# Altium schematic symbol library con-hirose-df13.SCHLIB: 58 symbols
Pins are listed as number, name and electrical type; pins without a type are passive.

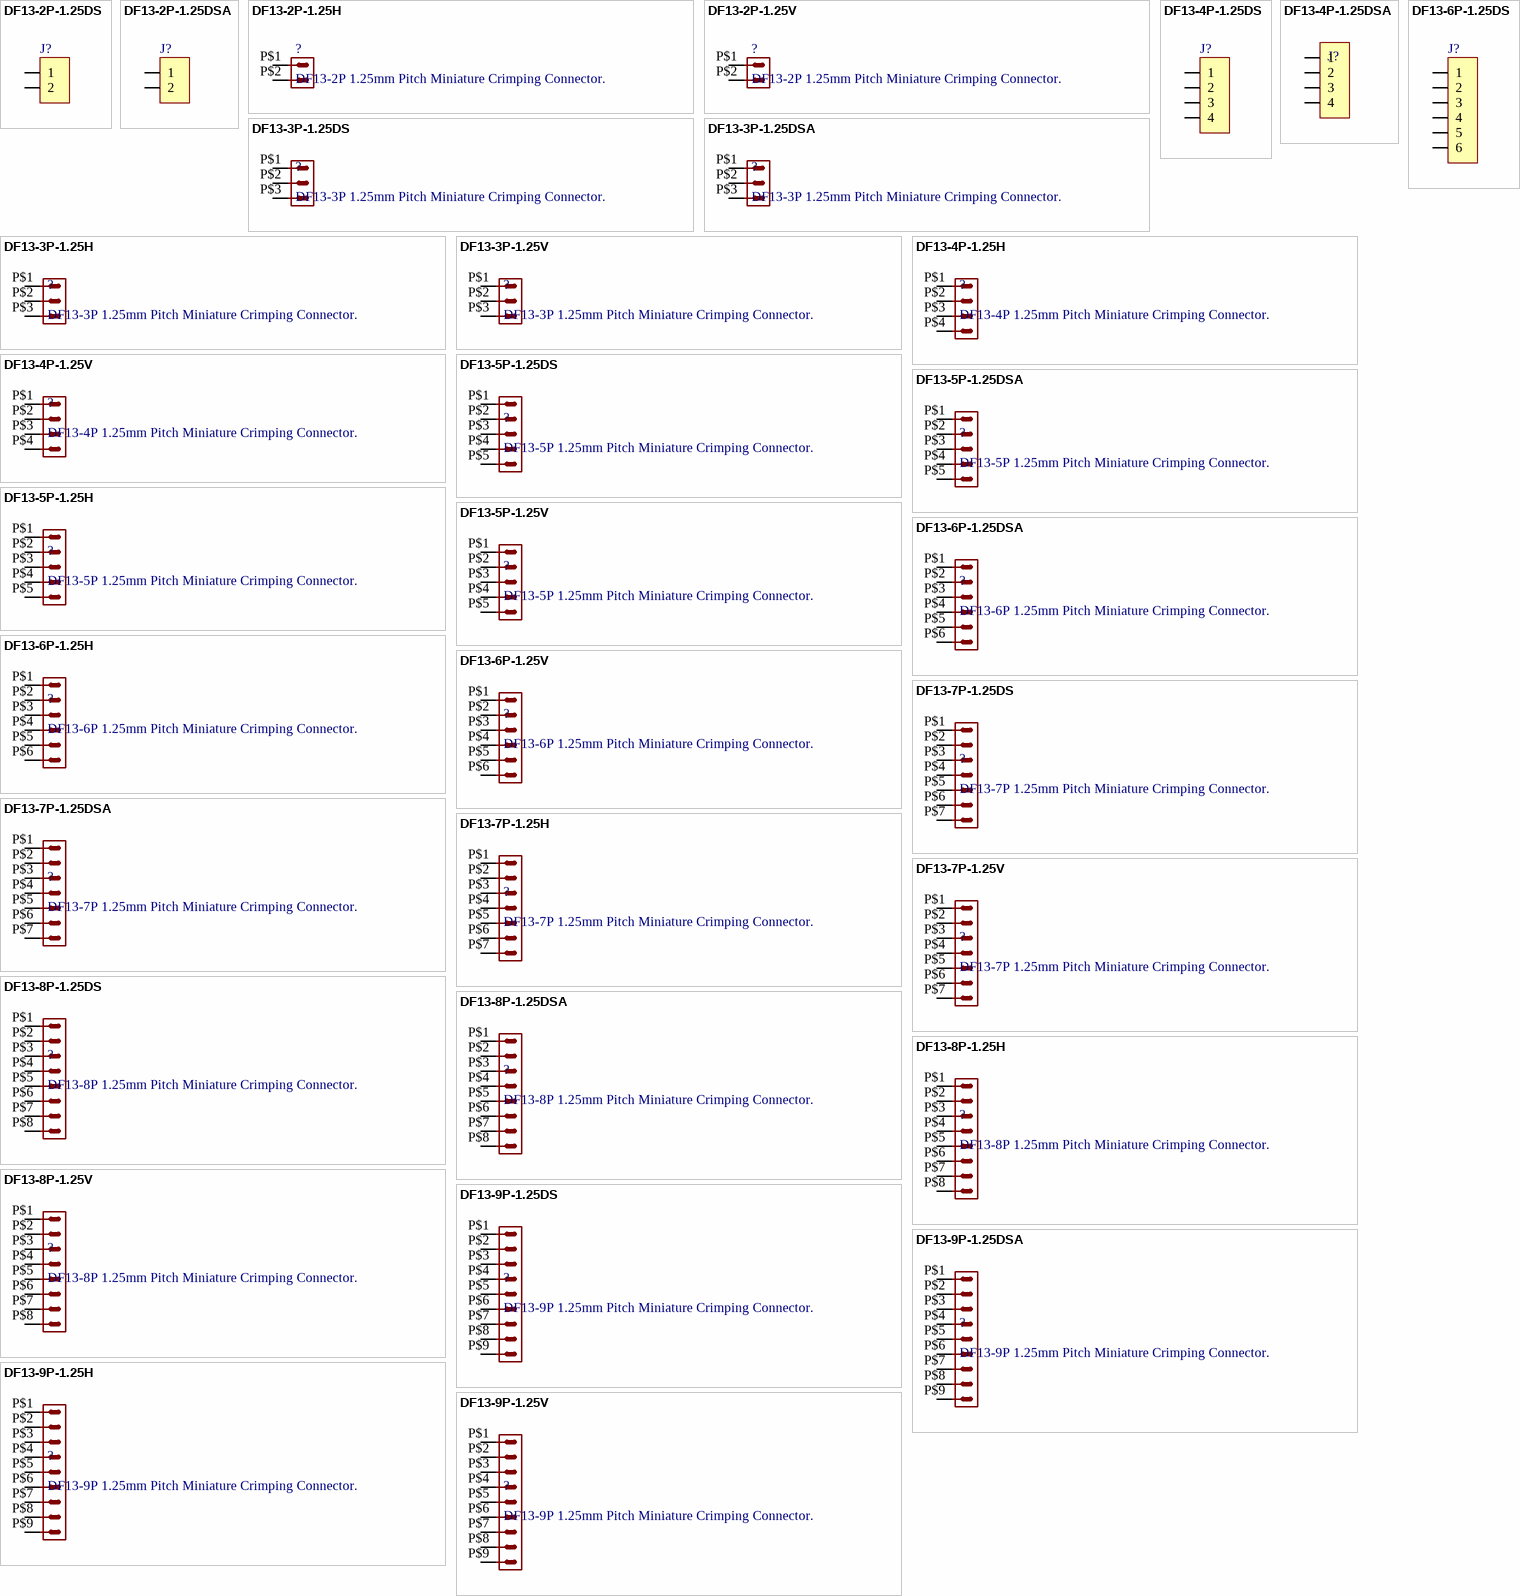
[diagram p0: symbols DF13-2P-1.25DS to DF13-9P-1.25V]

## DF13-2P-1.25DS
designator J?, comment DF13-2P / 1.25mm Pitch Miniature Crimping Connector.  (value not drawn)
footprint DF13-2P-1.25DS
pins: 1, 2

## DF13-2P-1.25DSA
designator J?, comment DF13-2P / 1.25mm Pitch Miniature Crimping Connector.  (value not drawn)
footprint DF13-2P-1.25DSA
pins: 1, 2

## DF13-2P-1.25H
designator ?, comment DF13-2P / 1.25mm Pitch Miniature Crimping Connector.
footprint DF13A-2P-1.25H
pins: P$1 1, P$2 2

## DF13-2P-1.25V
designator ?, comment DF13-2P / 1.25mm Pitch Miniature Crimping Connector.
footprint DF13C-2P-1.25V
pins: P$1 1, P$2 2

## DF13-3P-1.25DS
designator ?, comment DF13-3P / 1.25mm Pitch Miniature Crimping Connector.
footprint DF13-3P-1.25DS
pins: P$1 1, P$2 2, P$3 3

## DF13-3P-1.25DSA
designator ?, comment DF13-3P / 1.25mm Pitch Miniature Crimping Connector.
footprint DF13-3P-1.25DSA
pins: P$1 1, P$2 2, P$3 3

## DF13-3P-1.25H
designator ?, comment DF13-3P / 1.25mm Pitch Miniature Crimping Connector.
footprint DF13A-3P-1.25H
pins: P$1 1, P$2 2, P$3 3

## DF13-3P-1.25V
designator ?, comment DF13-3P / 1.25mm Pitch Miniature Crimping Connector.
footprint DF13C-3P-1.25V
pins: P$1 1, P$2 2, P$3 3

## DF13-4P-1.25DS
designator J?, comment DF13-4P / 1.25mm Pitch Miniature Crimping Connector.  (value not drawn)
footprint DF13-4P-1.25DS
pins: 1, 2, 3, 4

## DF13-4P-1.25DSA
designator J?, comment DF13-4P / 1.25mm Pitch Miniature Crimping Connector.  (value not drawn)
footprint DF13-4P-1.25DSA
pins: 1, 2, 3, 4

## DF13-4P-1.25H
designator ?, comment DF13-4P / 1.25mm Pitch Miniature Crimping Connector.
footprint DF13A-4P-1.25H
pins: P$1 1, P$2 2, P$3 3, P$4 4

## DF13-4P-1.25V
designator ?, comment DF13-4P / 1.25mm Pitch Miniature Crimping Connector.
footprint DF13C-4P-1.25V
pins: P$1 1, P$2 2, P$3 3, P$4 4

## DF13-5P-1.25DS
designator ?, comment DF13-5P / 1.25mm Pitch Miniature Crimping Connector.
footprint DF13-5P-1.25DS
pins: P$1 1, P$2 2, P$3 3, P$4 4, P$5 5

## DF13-5P-1.25DSA
designator ?, comment DF13-5P / 1.25mm Pitch Miniature Crimping Connector.
footprint DF13-5P-1.25DSA
pins: P$1 1, P$2 2, P$3 3, P$4 4, P$5 5

## DF13-5P-1.25H
designator ?, comment DF13-5P / 1.25mm Pitch Miniature Crimping Connector.
footprint DF13A-5P-1.25H
pins: P$1 1, P$2 2, P$3 3, P$4 4, P$5 5

## DF13-5P-1.25V
designator ?, comment DF13-5P / 1.25mm Pitch Miniature Crimping Connector.
footprint DF13C-5P-1.25V
pins: P$1 1, P$2 2, P$3 3, P$4 4, P$5 5

## DF13-6P-1.25DS
designator J?, comment DF13-6P / 1.25mm Pitch Miniature Crimping Connector.  (value not drawn)
footprint DF13-6P-1.25DS
pins: 1, 2, 3, 4, 5, 6

## DF13-6P-1.25DSA
designator ?, comment DF13-6P / 1.25mm Pitch Miniature Crimping Connector.
footprint DF13-6P-1.25DSA
pins: P$1 1, P$2 2, P$3 3, P$4 4, P$5 5, P$6 6

## DF13-6P-1.25H
designator ?, comment DF13-6P / 1.25mm Pitch Miniature Crimping Connector.
footprint DF13A-6P-1.25H
pins: P$1 1, P$2 2, P$3 3, P$4 4, P$5 5, P$6 6

## DF13-6P-1.25V
designator ?, comment DF13-6P / 1.25mm Pitch Miniature Crimping Connector.
footprint DF13C-6P-1.25V
pins: P$1 1, P$2 2, P$3 3, P$4 4, P$5 5, P$6 6

## DF13-7P-1.25DS
designator ?, comment DF13-7P / 1.25mm Pitch Miniature Crimping Connector.
footprint DF13-7P-1.25DS
pins: P$1 1, P$2 2, P$3 3, P$4 4, P$5 5, P$6 6, P$7 7

## DF13-7P-1.25DSA
designator ?, comment DF13-7P / 1.25mm Pitch Miniature Crimping Connector.
footprint DF13-7P-1.25DSA
pins: P$1 1, P$2 2, P$3 3, P$4 4, P$5 5, P$6 6, P$7 7

## DF13-7P-1.25H
designator ?, comment DF13-7P / 1.25mm Pitch Miniature Crimping Connector.
footprint DF13A-7P-1.25H
pins: P$1 1, P$2 2, P$3 3, P$4 4, P$5 5, P$6 6, P$7 7

## DF13-7P-1.25V
designator ?, comment DF13-7P / 1.25mm Pitch Miniature Crimping Connector.
footprint DF13C-7P-1.25V
pins: P$1 1, P$2 2, P$3 3, P$4 4, P$5 5, P$6 6, P$7 7

## DF13-8P-1.25DS
designator ?, comment DF13-8P / 1.25mm Pitch Miniature Crimping Connector.
footprint DF13-8P-1.25DS
pins: P$1 1, P$2 2, P$3 3, P$4 4, P$5 5, P$6 6, P$7 7, P$8 8

## DF13-8P-1.25DSA
designator ?, comment DF13-8P / 1.25mm Pitch Miniature Crimping Connector.
footprint DF13-8P-1.25DSA
pins: P$1 1, P$2 2, P$3 3, P$4 4, P$5 5, P$6 6, P$7 7, P$8 8

## DF13-8P-1.25H
designator ?, comment DF13-8P / 1.25mm Pitch Miniature Crimping Connector.
footprint DF13A-8P-1.25H
pins: P$1 1, P$2 2, P$3 3, P$4 4, P$5 5, P$6 6, P$7 7, P$8 8

## DF13-8P-1.25V
designator ?, comment DF13-8P / 1.25mm Pitch Miniature Crimping Connector.
footprint DF13C-8P-1.25V
pins: P$1 1, P$2 2, P$3 3, P$4 4, P$5 5, P$6 6, P$7 7, P$8 8

## DF13-9P-1.25DS
designator ?, comment DF13-9P / 1.25mm Pitch Miniature Crimping Connector.
footprint DF13-9P-1.25DS
pins: P$1 1, P$2 2, P$3 3, P$4 4, P$5 5, P$6 6, P$7 7, P$8 8, P$9 9

## DF13-9P-1.25DSA
designator ?, comment DF13-9P / 1.25mm Pitch Miniature Crimping Connector.
footprint DF13-9P-1.25DSA
pins: P$1 1, P$2 2, P$3 3, P$4 4, P$5 5, P$6 6, P$7 7, P$8 8, P$9 9

## DF13-9P-1.25H
designator ?, comment DF13-9P / 1.25mm Pitch Miniature Crimping Connector.
footprint DF13A-9P-1.25H
pins: P$1 1, P$2 2, P$3 3, P$4 4, P$5 5, P$6 6, P$7 7, P$8 8, P$9 9

## DF13-9P-1.25V
designator ?, comment DF13-9P / 1.25mm Pitch Miniature Crimping Connector.
footprint DF13C-9P-1.25V
pins: P$1 1, P$2 2, P$3 3, P$4 4, P$5 5, P$6 6, P$7 7, P$8 8, P$9 9

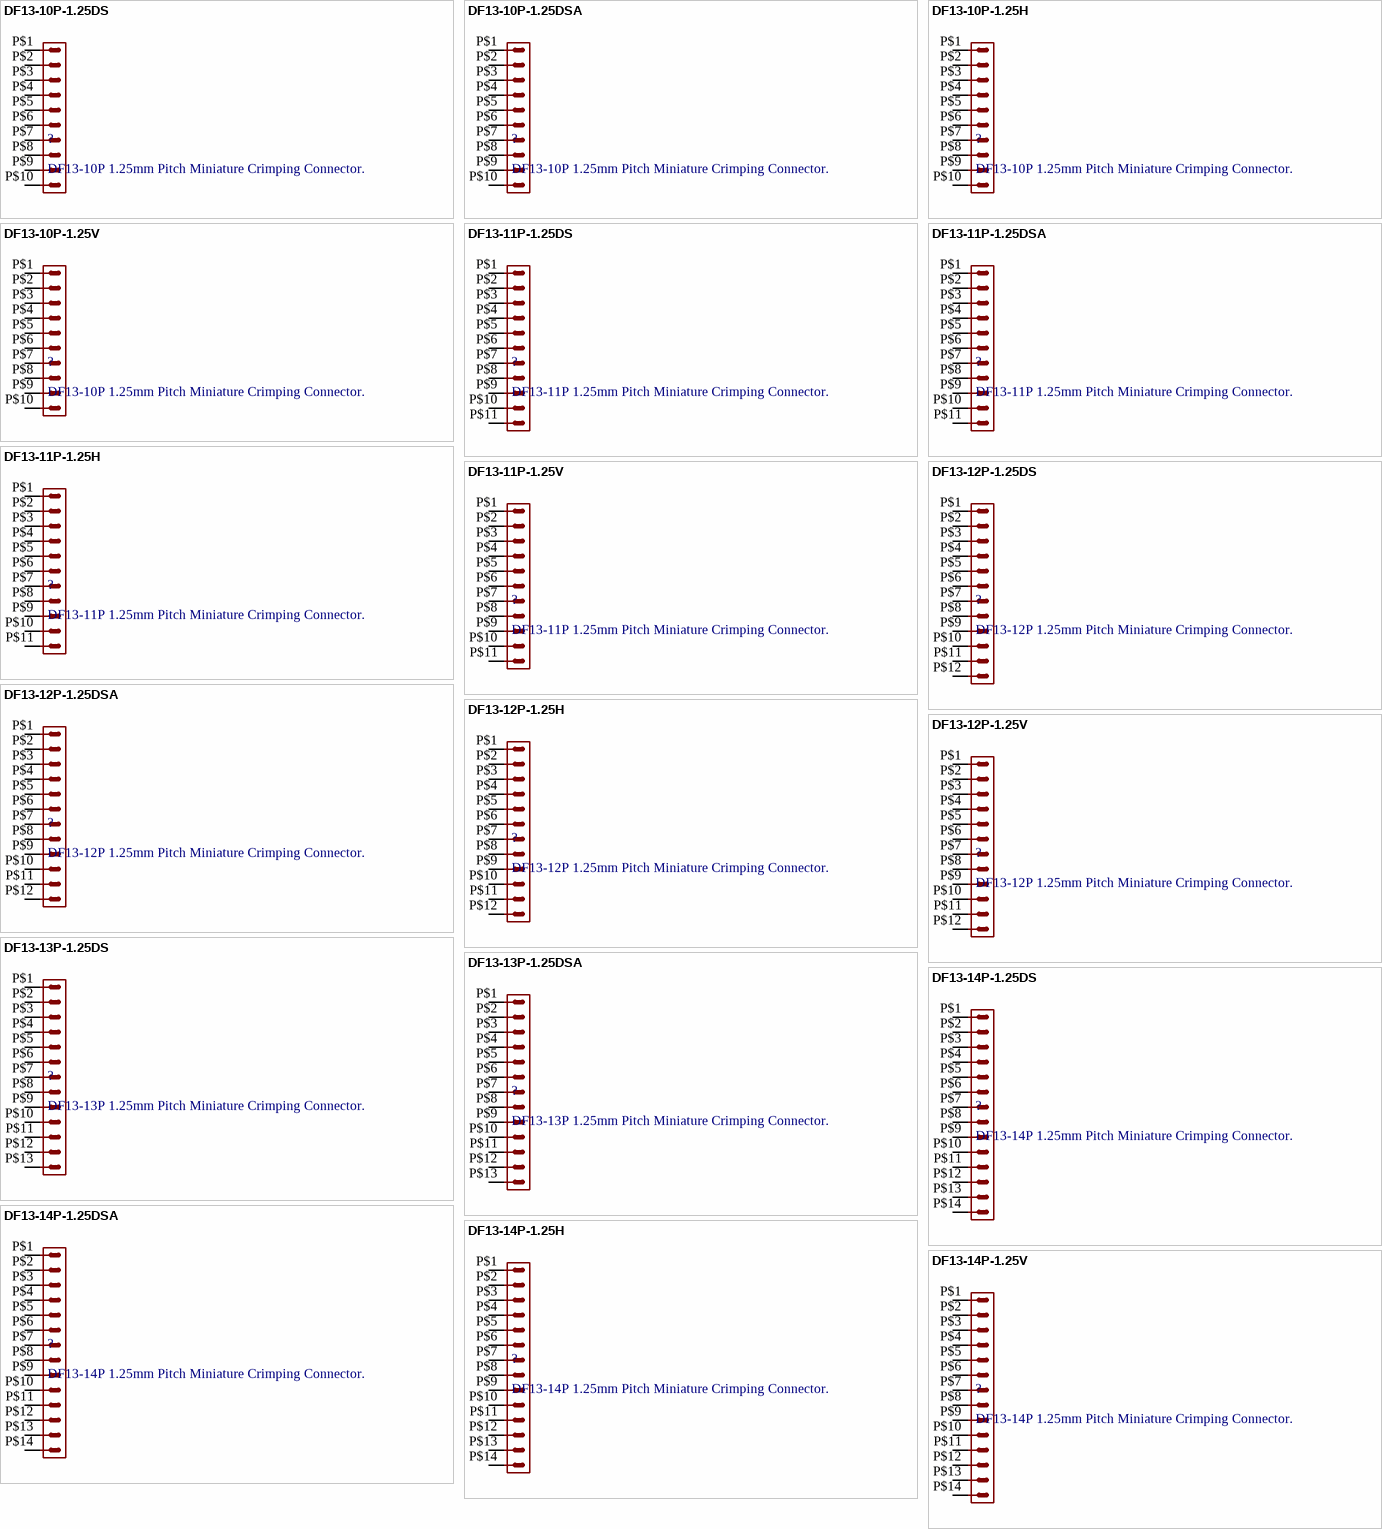
[diagram p1: symbols DF13-10P-1.25DS to DF13-14P-1.25V]

## DF13-10P-1.25DS
designator ?, comment DF13-10P / 1.25mm Pitch Miniature Crimping Connector.
footprint DF13-10P-1.25DS
pins: P$1 1, P$2 2, P$3 3, P$4 4, P$5 5, P$6 6, P$7 7, P$8 8, P$9 9, P$10 10

## DF13-10P-1.25DSA
designator ?, comment DF13-10P / 1.25mm Pitch Miniature Crimping Connector.
footprint DF13-10P-1.25DSA
pins: P$1 1, P$2 2, P$3 3, P$4 4, P$5 5, P$6 6, P$7 7, P$8 8, P$9 9, P$10 10

## DF13-10P-1.25H
designator ?, comment DF13-10P / 1.25mm Pitch Miniature Crimping Connector.
footprint DF13A-10P-1.25H
pins: P$1 1, P$2 2, P$3 3, P$4 4, P$5 5, P$6 6, P$7 7, P$8 8, P$9 9, P$10 10

## DF13-10P-1.25V
designator ?, comment DF13-10P / 1.25mm Pitch Miniature Crimping Connector.
footprint DF13C-10P-1.25V
pins: P$1 1, P$2 2, P$3 3, P$4 4, P$5 5, P$6 6, P$7 7, P$8 8, P$9 9, P$10 10

## DF13-11P-1.25DS
designator ?, comment DF13-11P / 1.25mm Pitch Miniature Crimping Connector.
footprint DF13-11P-1.25DS
pins: P$1 1, P$2 2, P$3 3, P$4 4, P$5 5, P$6 6, P$7 7, P$8 8, P$9 9, P$10 10, P$11 11

## DF13-11P-1.25DSA
designator ?, comment DF13-11P / 1.25mm Pitch Miniature Crimping Connector.
footprint DF13-11P-1.25DSA
pins: P$1 1, P$2 2, P$3 3, P$4 4, P$5 5, P$6 6, P$7 7, P$8 8, P$9 9, P$10 10, P$11 11

## DF13-11P-1.25H
designator ?, comment DF13-11P / 1.25mm Pitch Miniature Crimping Connector.
footprint DF13A-11P-1.25H
pins: P$1 1, P$2 2, P$3 3, P$4 4, P$5 5, P$6 6, P$7 7, P$8 8, P$9 9, P$10 10, P$11 11

## DF13-11P-1.25V
designator ?, comment DF13-11P / 1.25mm Pitch Miniature Crimping Connector.
footprint DF13C-11P-1.25V
pins: P$1 1, P$2 2, P$3 3, P$4 4, P$5 5, P$6 6, P$7 7, P$8 8, P$9 9, P$10 10, P$11 11

## DF13-12P-1.25DS
designator ?, comment DF13-12P / 1.25mm Pitch Miniature Crimping Connector.
footprint DF13-12P-1.25DS
pins: P$1 1, P$2 2, P$3 3, P$4 4, P$5 5, P$6 6, P$7 7, P$8 8, P$9 9, P$10 10, P$11 11, P$12 12

## DF13-12P-1.25DSA
designator ?, comment DF13-12P / 1.25mm Pitch Miniature Crimping Connector.
footprint DF13-12P-1.25DSA
pins: P$1 1, P$2 2, P$3 3, P$4 4, P$5 5, P$6 6, P$7 7, P$8 8, P$9 9, P$10 10, P$11 11, P$12 12

## DF13-12P-1.25H
designator ?, comment DF13-12P / 1.25mm Pitch Miniature Crimping Connector.
footprint DF13A-12P-1.25H
pins: P$1 1, P$2 2, P$3 3, P$4 4, P$5 5, P$6 6, P$7 7, P$8 8, P$9 9, P$10 10, P$11 11, P$12 12

## DF13-12P-1.25V
designator ?, comment DF13-12P / 1.25mm Pitch Miniature Crimping Connector.
footprint DF13C-12P-1.25V
pins: P$1 1, P$2 2, P$3 3, P$4 4, P$5 5, P$6 6, P$7 7, P$8 8, P$9 9, P$10 10, P$11 11, P$12 12

## DF13-13P-1.25DS
designator ?, comment DF13-13P / 1.25mm Pitch Miniature Crimping Connector.
footprint DF13-13P-1.25DS
pins: P$1 1, P$2 2, P$3 3, P$4 4, P$5 5, P$6 6, P$7 7, P$8 8, P$9 9, P$10 10, P$11 11, P$12 12, P$13 13

## DF13-13P-1.25DSA
designator ?, comment DF13-13P / 1.25mm Pitch Miniature Crimping Connector.
footprint DF13-13P-1.25DSA
pins: P$1 1, P$2 2, P$3 3, P$4 4, P$5 5, P$6 6, P$7 7, P$8 8, P$9 9, P$10 10, P$11 11, P$12 12, P$13 13

## DF13-14P-1.25DS
designator ?, comment DF13-14P / 1.25mm Pitch Miniature Crimping Connector.
footprint DF13-14P-1.25DS
pins: P$1 1, P$2 2, P$3 3, P$4 4, P$5 5, P$6 6, P$7 7, P$8 8, P$9 9, P$10 10, P$11 11, P$12 12, P$13 13, P$14 14

## DF13-14P-1.25DSA
designator ?, comment DF13-14P / 1.25mm Pitch Miniature Crimping Connector.
footprint DF13-14P-1.25DSA
pins: P$1 1, P$2 2, P$3 3, P$4 4, P$5 5, P$6 6, P$7 7, P$8 8, P$9 9, P$10 10, P$11 11, P$12 12, P$13 13, P$14 14

## DF13-14P-1.25H
designator ?, comment DF13-14P / 1.25mm Pitch Miniature Crimping Connector.
footprint DF13A-14P-1.25H
pins: P$1 1, P$2 2, P$3 3, P$4 4, P$5 5, P$6 6, P$7 7, P$8 8, P$9 9, P$10 10, P$11 11, P$12 12, P$13 13, P$14 14

## DF13-14P-1.25V
designator ?, comment DF13-14P / 1.25mm Pitch Miniature Crimping Connector.
footprint DF13C-14P-1.25V
pins: P$1 1, P$2 2, P$3 3, P$4 4, P$5 5, P$6 6, P$7 7, P$8 8, P$9 9, P$10 10, P$11 11, P$12 12, P$13 13, P$14 14

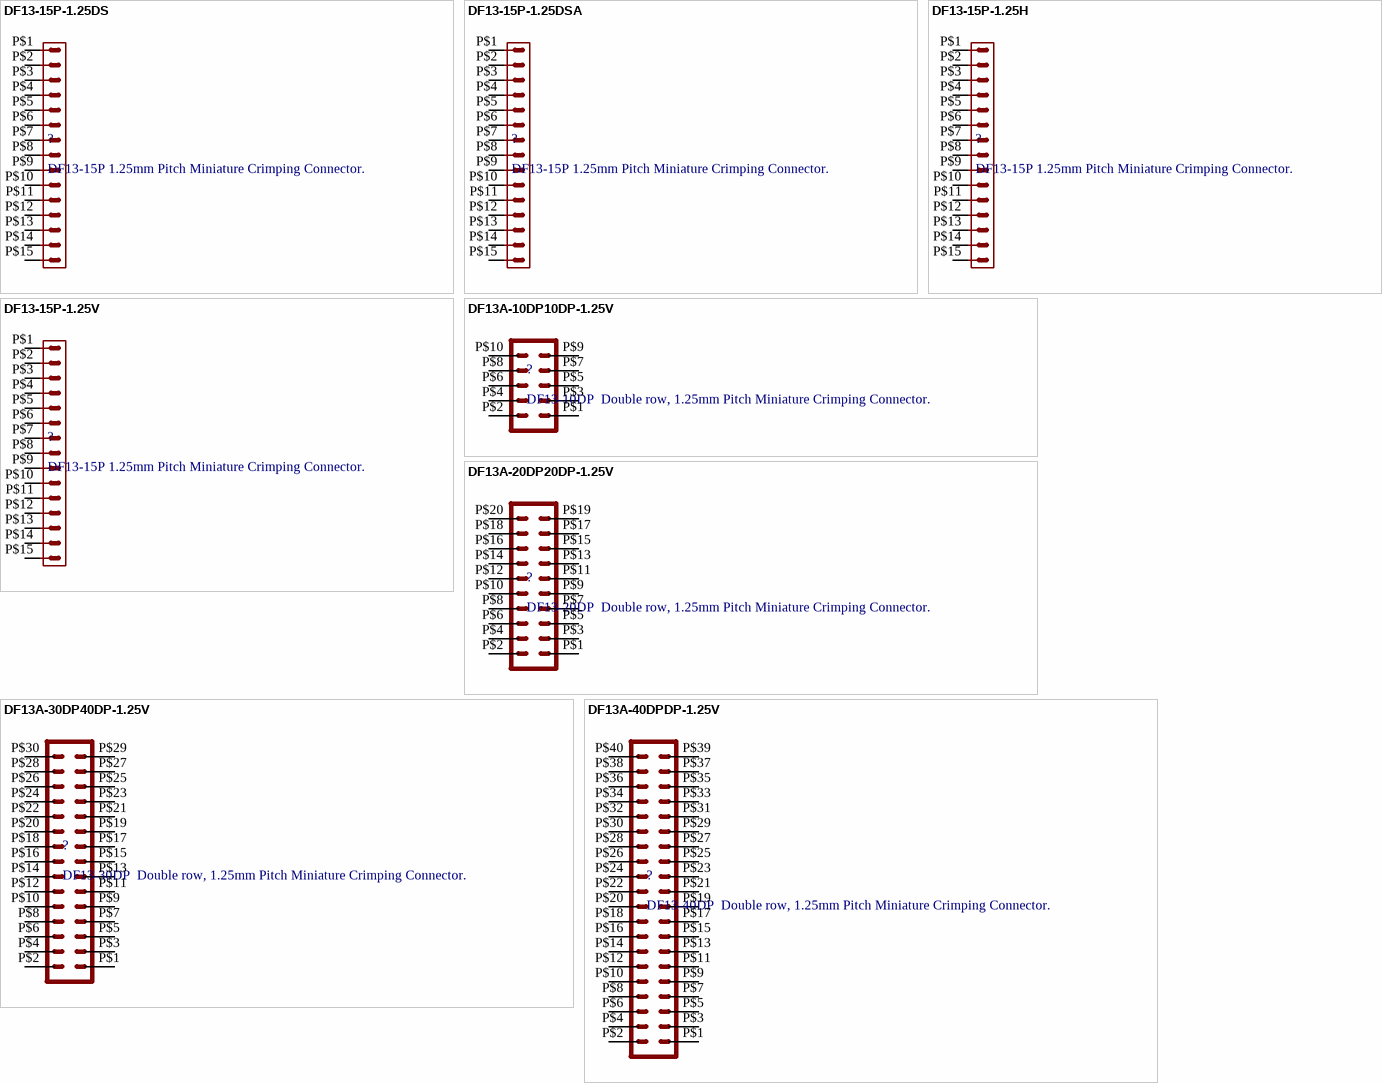
[diagram p2: symbols DF13-15P-1.25DS to DF13A-40DPDP-1.25V]

## DF13-15P-1.25DS
designator ?, comment DF13-15P / 1.25mm Pitch Miniature Crimping Connector.
footprint DF13-15P-1.25DS
pins: P$1 1, P$2 2, P$3 3, P$4 4, P$5 5, P$6 6, P$7 7, P$8 8, P$9 9, P$10 10, P$11 11, P$12 12, P$13 13, P$14 14, P$15 15

## DF13-15P-1.25DSA
designator ?, comment DF13-15P / 1.25mm Pitch Miniature Crimping Connector.
footprint DF13-15P-1.25DSA
pins: P$1 1, P$2 2, P$3 3, P$4 4, P$5 5, P$6 6, P$7 7, P$8 8, P$9 9, P$10 10, P$11 11, P$12 12, P$13 13, P$14 14, P$15 15

## DF13-15P-1.25H
designator ?, comment DF13-15P / 1.25mm Pitch Miniature Crimping Connector.
footprint DF13A-15P-1.25H
pins: P$1 1, P$2 2, P$3 3, P$4 4, P$5 5, P$6 6, P$7 7, P$8 8, P$9 9, P$10 10, P$11 11, P$12 12, P$13 13, P$14 14, P$15 15

## DF13-15P-1.25V
designator ?, comment DF13-15P / 1.25mm Pitch Miniature Crimping Connector.
footprint DF13C-15P-1.25V
pins: P$1 1, P$2 2, P$3 3, P$4 4, P$5 5, P$6 6, P$7 7, P$8 8, P$9 9, P$10 10, P$11 11, P$12 12, P$13 13, P$14 14, P$15 15

## DF13A-10DP10DP-1.25V
designator ?, comment DF13-10DP / Double row, 1.25mm Pitch Miniature Crimping Connector.
footprint DF13A-10DP-1.25V
pins: P$1 1, P$2 2, P$3 3, P$4 4, P$5 5, P$6 6, P$7 7, P$8 8, P$9 9, P$10 10

## DF13A-20DP20DP-1.25V
designator ?, comment DF13-20DP / Double row, 1.25mm Pitch Miniature Crimping Connector.
footprint DF13A-20DP-1.25V
pins: P$1 1, P$2 2, P$3 3, P$4 4, P$5 5, P$6 6, P$7 7, P$8 8, P$9 9, P$10 10, P$11 11, P$12 12, P$13 13, P$14 14, P$15 15, P$16 16, P$17 17, P$18 18, P$19 19, P$20 20

## DF13A-30DP40DP-1.25V
designator ?, comment DF13-30DP / Double row, 1.25mm Pitch Miniature Crimping Connector.
footprint DF13A-30DP-1.25V
pins: P$1 1, P$2 2, P$3 3, P$4 4, P$5 5, P$6 6, P$7 7, P$8 8, P$9 9, P$10 10, P$11 11, P$12 12, P$13 13, P$14 14, P$15 15, P$16 16, P$17 17, P$18 18, P$19 19, P$20 20, P$21 21, P$22 22, P$23 23, P$24 24, P$25 25, P$26 26, P$27 27, P$28 28, P$29 29, P$30 30

## DF13A-40DPDP-1.25V
designator ?, comment DF13-40DP / Double row, 1.25mm Pitch Miniature Crimping Connector.
footprint DF13A-40DP-1.25V
pins: P$1 1, P$2 2, P$3 3, P$4 4, P$5 5, P$6 6, P$7 7, P$8 8, P$9 9, P$10 10, P$11 11, P$12 12, P$13 13, P$14 14, P$15 15, P$16 16, P$17 17, P$18 18, P$19 19, P$20 20, P$21 21, P$22 22, P$23 23, P$24 24, P$25 25, P$26 26, P$27 27, P$28 28, P$29 29, P$30 30, P$31 31, P$32 32, P$33 33, P$34 34, P$35 35, P$36 36, P$37 37, P$38 38, P$39 39, P$40 40